# EAGLE library part TPS6735IDR (library Labops_Lib_AH)
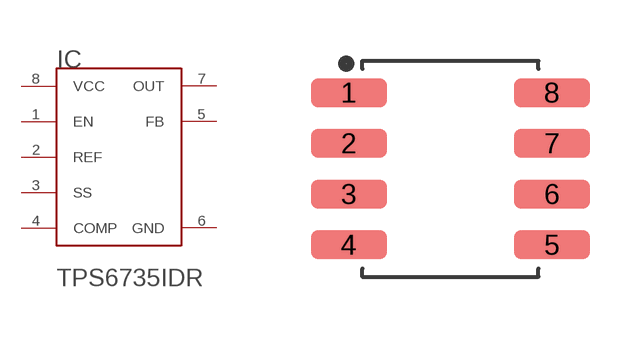
[diagram p73: symbol with the pads of SOIC8; footprint SOIC8]

Designator prefix IC

## TPS6735IDR (DESCRIPTION: Switching Voltage Regulators 200mA - 5V DC/DC; LIB_STATUS: Prototype; MFN: TPS6735IDR; MFR: Texas Instruments; OUR_STOCK: 24; PART_VALUE: TPS6735; PRICE-1: 4.64; SUPPLIER-1: Mouser)  [SOIC8]
1  EN
2  REF
3  SS
4  COMP
5  FB
6  GND
7  OUT
8  VCC

## Footprint SOIC8 (pad centres in mm)
smd 1.9 x 0.72: 1 -2.54,1.905; 2 -2.54,0.635; 3 -2.54,-0.635; 4 -2.54,-1.905; 5 2.54,-1.905; 6 2.54,-0.635; 7 2.54,0.635; 8 2.54,1.905